# EAGLE library part ADPL16000AATA+T (library ADPL16000AATA+T)
60V, 400mA, Ultra-Small, Hi gh-Efficiency, Synchronous Step-Down DC-DC Converters Source: Datasheet <https://www.analog.com/media/en/technical-documentation/data-sheets/adpl16000.pdf>
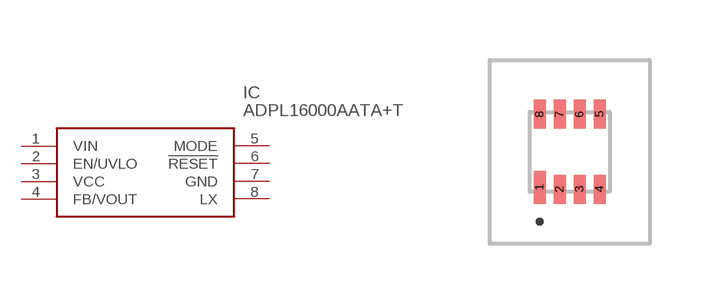
[diagram p0: symbol with the pads of ADPL16000AATAT; footprint ADPL16000AATAT]

Designator prefix IC

## ADPL16000AATA+T (Description: 60V, 400mA, Ultra-Small, Hi gh-Efficiency, Synchronous Step-Down DC-DC Converters; Height: 0.8mm; Manufacturer_Name: Analog Devices; Manufacturer_Part_Number: ADPL16000AATA+T; Mouser_Part_Number: 700-ADPL16000AATA+T; Mouser_Price-Stock: https://www.mouser.co.uk/ProductDetail/Analog-Devices-Maxim-Integrated/ADPL16000AATA%2bT?qs=wT7LY0lnAe0OnT0M8eXHew%3D%3D)  [ADPL16000AATAT]
1  VIN
2  EN/UVLO
3  VCC
4  FB/VOUT
5  MODE
6  !RESET
7  GND
8  LX

## Footprint ADPL16000AATAT (pad centres in mm)
8-PIN TDFN-CU_2024-1
smd 0.3 x 0.825: 1 -0.75,-0.888
smd 0.3 x 0.725: 2 -0.25,-0.938; 3 0.25,-0.938; 4 0.75,-0.938; 5 0.75,0.938; 6 0.25,0.938; 7 -0.25,0.938; 8 -0.75,0.938